# EAGLE library part DSPIC30F5011 (library microchip-dspic)
dsPIC General DSC with CAN and CoDec ports
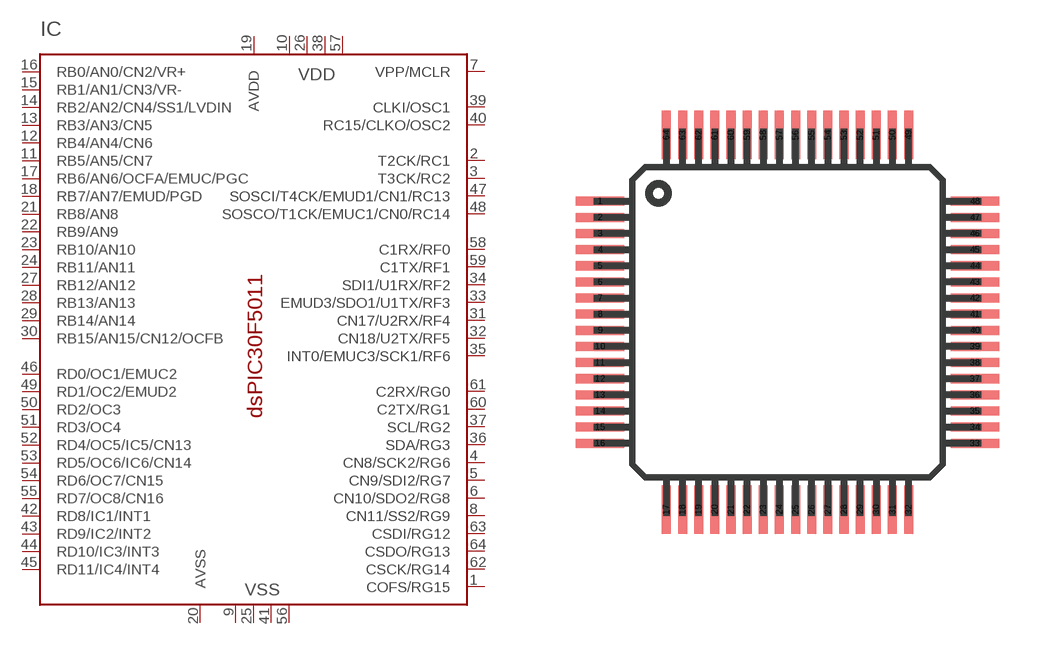
[diagram p11: symbol with the pads of TQFP64-10X10; footprint TQFP64-10X10]

Designator prefix IC

## DSPIC30F5011/PTG  [TQFP64-10X10]
1  COFS/RG15
2  T2CK/RC1
3  T3CK/RC2
4  CN8/SCK2/RG6
5  CN9/SDI2/RG7
6  CN10/SDO2/RG8
7  VPP/MCLR  in
8  CN11/SS2/RG9
9  VSS  pwr
10  VDD  pwr
11  RB5/AN5/CN7
12  RB4/AN4/CN6
13  RB3/AN3/CN5
14  RB2/AN2/CN4/SS1/LVDIN
15  RB1/AN1/CN3/VR-
16  RB0/AN0/CN2/VR+
17  RB6/AN6/OCFA/EMUC/PGC
18  RB7/AN7/EMUD/PGD
19  AVDD  pwr
20  AVSS  pwr
21  RB8/AN8
22  RB9/AN9
23  RB10/AN10
24  RB11/AN11
25  VSS  pwr
26  VDD  pwr
27  RB12/AN12
28  RB13/AN13
29  RB14/AN14
30  RB15/AN15/CN12/OCFB
31  CN17/U2RX/RF4
32  CN18/U2TX/RF5
33  EMUD3/SDO1/U1TX/RF3
34  SDI1/U1RX/RF2
35  INT0/EMUC3/SCK1/RF6
36  SDA/RG3
37  SCL/RG2
38  VDD  pwr
39  CLKI/OSC1  in
40  RC15/CLKO/OSC2
41  VSS  pwr
42  RD8/IC1/INT1
43  RD9/IC2/INT2
44  RD10/IC3/INT3
45  RD11/IC4/INT4
46  RD0/OC1/EMUC2
47  SOSCI/T4CK/EMUD1/CN1/RC13
48  SOSCO/T1CK/EMUC1/CN0/RC14
49  RD1/OC2/EMUD2
50  RD2/OC3
51  RD3/OC4
52  RD4/OC5/IC5/CN13
53  RD5/OC6/IC6/CN14
54  RD6/OC7/CN15
55  RD7/OC8/CN16
56  VSS  pwr
57  VDD  pwr
58  C1RX/RF0
59  C1TX/RF1
60  C2TX/RG1
61  C2RX/RG0
62  CSCK/RG14
63  CSDI/RG12
64  CSDO/RG13

## Footprint TQFP64-10X10 (pad centres in mm)
Thin Quad Flat Pack package type TQ
smd 1.5 x 0.28: 1 -5.8,3.75; 2 -5.8,3.25; 3 -5.8,2.75; 4 -5.8,2.25; 5 -5.8,1.75; 6 -5.8,1.25; 7 -5.8,0.75; 8 -5.8,0.25; 9 -5.8,-0.25; 10 -5.8,-0.75; 11 -5.8,-1.25; 12 -5.8,-1.75; 13 -5.8,-2.25; 14 -5.8,-2.75; 15 -5.8,-3.25; 16 -5.8,-3.75; 33 5.8,-3.75; 34 5.8,-3.25; 35 5.8,-2.75; 36 5.8,-2.25; 37 5.8,-1.75; 38 5.8,-1.25; 39 5.8,-0.75; 40 5.8,-0.25; 41 5.8,0.25; 42 5.8,0.75; 43 5.8,1.25; 44 5.8,1.75; 45 5.8,2.25; 46 5.8,2.75; 47 5.8,3.25; 48 5.8,3.75
smd 0.28 x 1.5: 17 -3.75,-5.8; 18 -3.25,-5.8; 19 -2.75,-5.8; 20 -2.25,-5.8; 21 -1.75,-5.8; 22 -1.25,-5.8; 23 -0.75,-5.8; 24 -0.25,-5.8; 25 0.25,-5.8; 26 0.75,-5.8; 27 1.25,-5.8; 28 1.75,-5.8; 29 2.25,-5.8; 30 2.75,-5.8; 31 3.25,-5.8; 32 3.75,-5.8; 49 3.75,5.8; 50 3.25,5.8; 51 2.75,5.8; 52 2.25,5.8; 53 1.75,5.8; 54 1.25,5.8; 55 0.75,5.8; 56 0.25,5.8; 57 -0.25,5.8; 58 -0.75,5.8; 59 -1.25,5.8; 60 -1.75,5.8; 61 -2.25,5.8; 62 -2.75,5.8; 63 -3.25,5.8; 64 -3.75,5.8